# Altium footprint library Minifit.PcbLib: 27 footprints (part 2 of 2)
Each footprint in its own frame and in the unit in brackets; x right, y up, seen from the top. Pads: shape width x height; smd on the part's side, far side on the other; paste and mask are expansions set on the pad; w line width, h text height; cw(c..) or ccw(c..) is an arc to the next point about the centre after c.
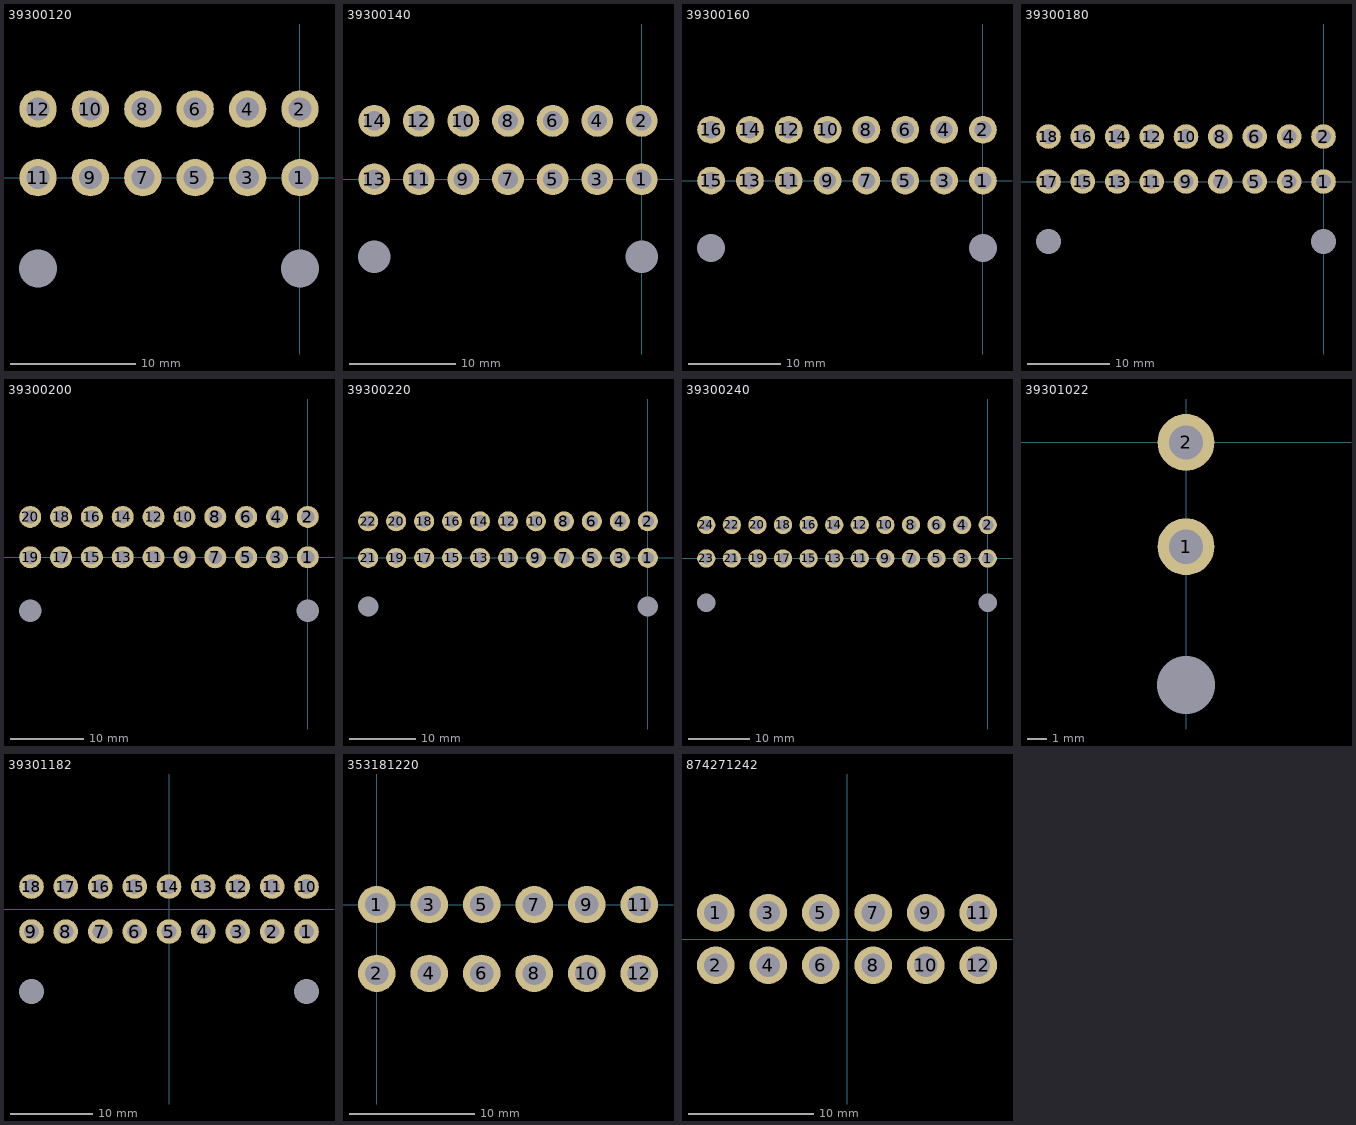
[diagram p1: the footprints below, top view; thin cyan lines are the x and y axes]

## 39300120 [mm]
pads (14):
  round 3 hole 1.85: 1(0,0) 2(0,5.5) 3(-4.2,0) 4(-4.2,5.5) 5(-8.4,0) 6(-8.4,5.5) 7(-12.6,0) 8(-12.6,5.5) 9(-16.8,0) 10(-16.8,5.5) 11(-21,0) 12(-21,5.5)
  round 1.524 hole 3.05: ""(-21,-7.3) ""(0,-7.3)
3D body "353181220.stp": height 12.4, standoff -3, extent -23.7,-13.935 3.1,6

## 39300140 [mm]
pads (16):
  round 3 hole 1.85: 1(0,0) 2(0,5.5) 3(-4.2,0) 4(-4.2,5.5) 5(-8.4,0) 6(-8.4,5.5) 7(-12.6,0) 8(-12.6,5.5) 9(-16.8,0) 10(-16.8,5.5) 11(-21,0) 12(-21,5.5) 13(-25.2,0) 14(-25.2,5.5)
  round 1.524 hole 3.05: ""(-25.2,-7.3) ""(0,-7.3)
3D body "039300140.stp": height 11.4, standoff -3.6, extent -27.9,-13.9 3.1,6.035

## 39300160 [mm]
pads (18):
  round 3 hole 1.85: 1(0,0) 2(0,5.5) 3(-4.2,0) 4(-4.2,5.5) 5(-8.4,0) 6(-8.4,5.5) 7(-12.6,0) 8(-12.6,5.5) 9(-16.8,0) 10(-16.8,5.5) 11(-21,0) 12(-21,5.5) 13(-25.2,0) 14(-25.2,5.5) 15(-29.4,0) 16(-29.4,5.5)
  round 1.524 hole 3.05: ""(-29.4,-7.3) ""(0,-7.3)
3D body "039300160.stp": height 11.4, standoff -3.6, extent -32.1,-13.9 3.1,6.035

## 39300180 [mm]
pads (20):
  round 3 hole 1.85: 1(0,0) 2(0,5.5) 3(-4.2,0) 4(-4.2,5.5) 5(-8.4,0) 6(-8.4,5.5) 7(-12.6,0) 8(-12.6,5.5) 9(-16.8,0) 10(-16.8,5.5) 11(-21,0) 12(-21,5.5) 13(-25.2,0) 14(-25.2,5.5) 15(-29.4,0) 16(-29.4,5.5) 17(-33.6,0) 18(-33.6,5.5)
  round 1.524 hole 3.05: ""(-33.6,-7.3) ""(0,-7.3)
3D body "039300180.stp": height 11.4, standoff -3.6, extent -36.3,-13.867 3.1,6.067

## 39300200 [mm]
pads (22):
  round 3 hole 1.85: 1(0,0) 2(0,5.5) 3(-4.2,0) 4(-4.2,5.5) 5(-8.4,0) 6(-8.4,5.5) 7(-12.6,0) 8(-12.6,5.5) 9(-16.8,0) 10(-16.8,5.5) 11(-21,0) 12(-21,5.5) 13(-25.2,0) 14(-25.2,5.5) 15(-29.4,0) 16(-29.4,5.5) 17(-33.6,0) 18(-33.6,5.5) 19(-37.8,0) 20(-37.8,5.5)
  round 1.524 hole 3.05: ""(-37.8,-7.3) ""(0,-7.3)
3D body "039300200.stp": height 11.4, standoff -3.6, extent -40.5,-13.9 3.1,6.035

## 39300220 [mm]
pads (24):
  round 3 hole 1.85: 1(0,0) 2(0,5.5) 3(-4.2,0) 4(-4.2,5.5) 5(-8.4,0) 6(-8.4,5.5) 7(-12.6,0) 8(-12.6,5.5) 9(-16.8,0) 10(-16.8,5.5) 11(-21,0) 12(-21,5.5) 13(-25.2,0) 14(-25.2,5.5) 15(-29.4,0) 16(-29.4,5.5) 17(-33.6,0) 18(-33.6,5.5) 19(-37.8,0) 20(-37.8,5.5) 21(-42,0) 22(-42,5.5)
  round 1.524 hole 3.05: ""(-42,-7.3) ""(0,-7.3)
3D body "039300220.stp": height 11.4, standoff -3.6, extent -44.7,-13.9 3.1,6.035

## 39300240 [mm]
pads (26):
  round 3 hole 1.85: 1(0,0) 2(0,5.5) 3(-4.2,0) 4(-4.2,5.5) 5(-8.4,0) 6(-8.4,5.5) 7(-12.6,0) 8(-12.6,5.5) 9(-16.8,0) 10(-16.8,5.5) 11(-21,0) 12(-21,5.5) 13(-25.2,0) 14(-25.2,5.5) 15(-29.4,0) 16(-29.4,5.5) 17(-33.6,0) 18(-33.6,5.5) 19(-37.8,0) 20(-37.8,5.5) 21(-42,0) 22(-42,5.5) 23(-46.2,0) 24(-46.2,5.5)
  round 1.524 hole 3.05: ""(-46.2,-7.3) ""(0,-7.3)
3D body "039300240.stp": height 11.4, standoff -3.6, extent -48.9,-13.9 3.1,6.035

## 39301022 [mm]
pads (3):
  round 3 hole 1.8: 1(0,-5.5) 2(0,0)
  round 1.524 hole 3.05: ""(0,-12.8)
3D body "039301022.stp": height 11.4, standoff -3.6, extent -2.7,-19.467 3.1,0.467

## 39301182 [mm]
pads (20):
  round 3 hole 1.85: 1(16.8,-2.75) 2(12.6,-2.75) 3(8.4,-2.75) 4(4.2,-2.75) 5(0,-2.75) 6(-4.2,-2.75) 7(-8.4,-2.75) 8(-12.6,-2.75) 9(-16.8,-2.75) 10(16.8,2.75) 11(12.6,2.75) 12(8.4,2.75) 13(4.2,2.75) 14(0,2.75) 15(-4.2,2.75) 16(-8.4,2.75) 17(-12.6,2.75) 18(-16.8,2.75)
  round 0 hole 3.05 unplated: PEG(-16.8,-10.05) PEG(16.8,-10.05)
3D body "039301182.stp": height 12.4, standoff -2.6, extent -19.5,-16.65 19.9,3.285

## 353181220 [mm]
pads (12):
  round 3 hole 1.85: 1(0,0) 2(0,-5.5) 3(4.2,0) 4(4.2,-5.5) 5(8.4,0) 6(8.4,-5.5) 7(12.6,0) 8(12.6,-5.5) 9(16.8,0) 10(16.8,-5.5) 11(21,0) 12(21,-5.5)
3D body "353181220.stp": height 12.4, standoff -3, extent -3.1,-6 23.7,13.935

## 874271242 [mm]
pads (12):
  round 3 hole 1.85: 1(-10.5,2.1) 2(-10.5,-2.1) 3(-6.3,2.1) 4(-6.3,-2.1) 5(-2.1,2.1) 6(-2.1,-2.1) 7(2.1,2.1) 8(2.1,-2.1) 9(6.3,2.1) 10(6.3,-2.1) 11(10.5,2.1) 12(10.5,-2.1)
3D body "874271242.stp": height 14, standoff -2.8, extent -13.8,-6 13.8,5.4